# EAGLE library part TPD4E1B06DRLR (library tpd4e1b06drlr)
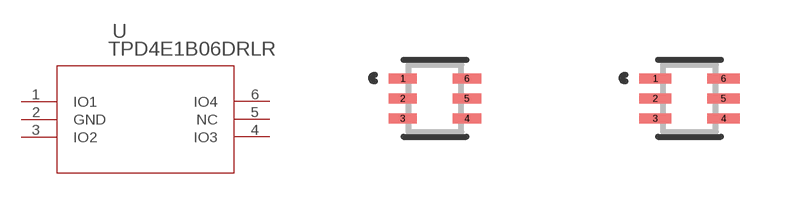
[diagram p0: symbol with the pads of DRL6; footprints DRL6, DRL6-M]

Designator prefix U

## TPD4E1B06DRLR (MANUFACTURER_PART_NUMBER: TPD4E1B06DRLR; VENDOR: Texas Instruments)  [DRL6]
1  IO1
2  GND  pwr
3  IO2
4  IO3
5  NC  nc
6  IO4

## TPD4E1B06DRLRDRL6-M (MANUFACTURER_PART_NUMBER: TPD4E1B06DRLR; VENDOR: Texas Instruments)  [DRL6-M]
Pads as for DRL6

## TPD4E1B06DRLRDRL6-L (MANUFACTURER_PART_NUMBER: TPD4E1B06DRLR; VENDOR: Texas Instruments)  [DRL6-L]
Pads as for DRL6

## Footprint DRL6 (pad centres in mm)
smd 0.705 x 0.25: 1 -0.802,0.5; 2 -0.802,0; 3 -0.802,-0.5; 4 0.802,-0.5; 5 0.802,0; 6 0.802,0.5

## Footprint DRL6-M (pad centres in mm)
smd 0.806 x 0.25: 1 -0.853,0.5; 2 -0.853,0; 3 -0.853,-0.5; 4 0.853,-0.5; 5 0.853,0; 6 0.853,0.5

## Footprint DRL6-L (pad centres in mm)
smd 0.603 x 0.25: 1 -0.752,0.5; 2 -0.752,0; 3 -0.752,-0.5; 4 0.752,-0.5; 5 0.752,0; 6 0.752,0.5